# EAGLE library part OPA2727 (library ds_ic_opa)
20MHz, High Precision CMOS Operational Amplifier
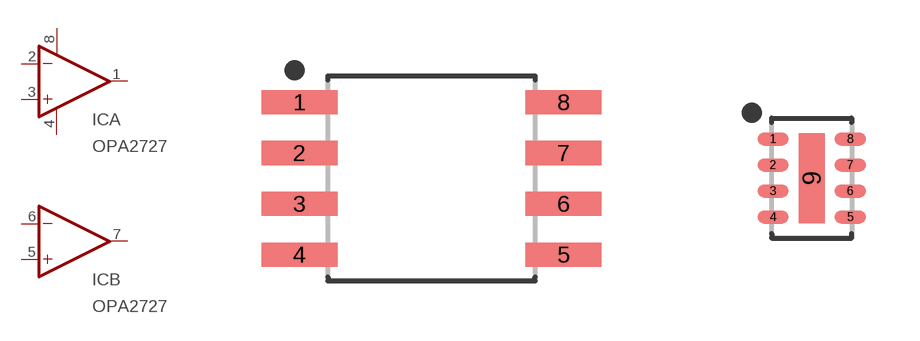
[diagram p3: symbol with the pads of SOIC127P770X170-8N; footprints SOIC127P770X170-8N, SON65P200X300X100-9T65X225]

Designator prefix IC; gates A=OPA_PWR B=OPA

## OPA2727  [SOIC127P770X170-8N]
1  A:OUT  out
2  A:-IN  in
3  A:+IN  in
4  A:V-  pwr
5  B:+IN  in
6  B:-IN  in
7  B:OUT  out
8  A:V+  pwr

## OPA2727AIDRBX  [SON65P200X300X100-9T65X225]
Pads as for SOIC127P770X170-8N

## Footprint SOIC127P770X170-8N (pad centres in mm)
8-SOIC, 1.27 mm pitch, 7.70 mm span, 5.13 X 5.18 X 1.70 mm body 8-pin SOIC package with 1.27 mm pitch, 7.70 mm span with body size 5.13 X 5.18 X 1.70 mm
smd 1.901 x 0.602: 1 -3.305,1.905; 2 -3.305,0.635; 3 -3.305,-0.635; 4 -3.305,-1.905; 5 3.305,-1.905; 6 3.305,-0.635; 7 3.305,0.635; 8 3.305,1.905

## Footprint SON65P200X300X100-9T65X225 (pad centres in mm)
8-SON, 0.65 mm pitch, 3.00 X 2.00 X 1.00 mm body, 2.25 X 0.65 mm thermal pad 8-pin SON package with 0.65 mm pitch with body size 3.00 X 2.00 X 1.00 mm and thermal pad size 2.25 X 0.65 mm
smd 0.778 x 0.32: 1 -0.967,0.975; 2 -0.967,0.325; 3 -0.967,-0.325; 4 -0.967,-0.975; 5 0.967,-0.975; 6 0.967,-0.325; 7 0.967,0.325; 8 0.967,0.975
smd 0.65 x 2.25: 9 0,0